# Altium footprint library memo.PcbLib: 50 footprints (part 3 of 4)
Each footprint in its own frame and in the unit in brackets; x right, y up, seen from the top. Pads: shape width x height; smd on the part's side, far side on the other; paste and mask are expansions set on the pad; w line width, h text height; cw(c..) or ccw(c..) is an arc to the next point about the centre after c.
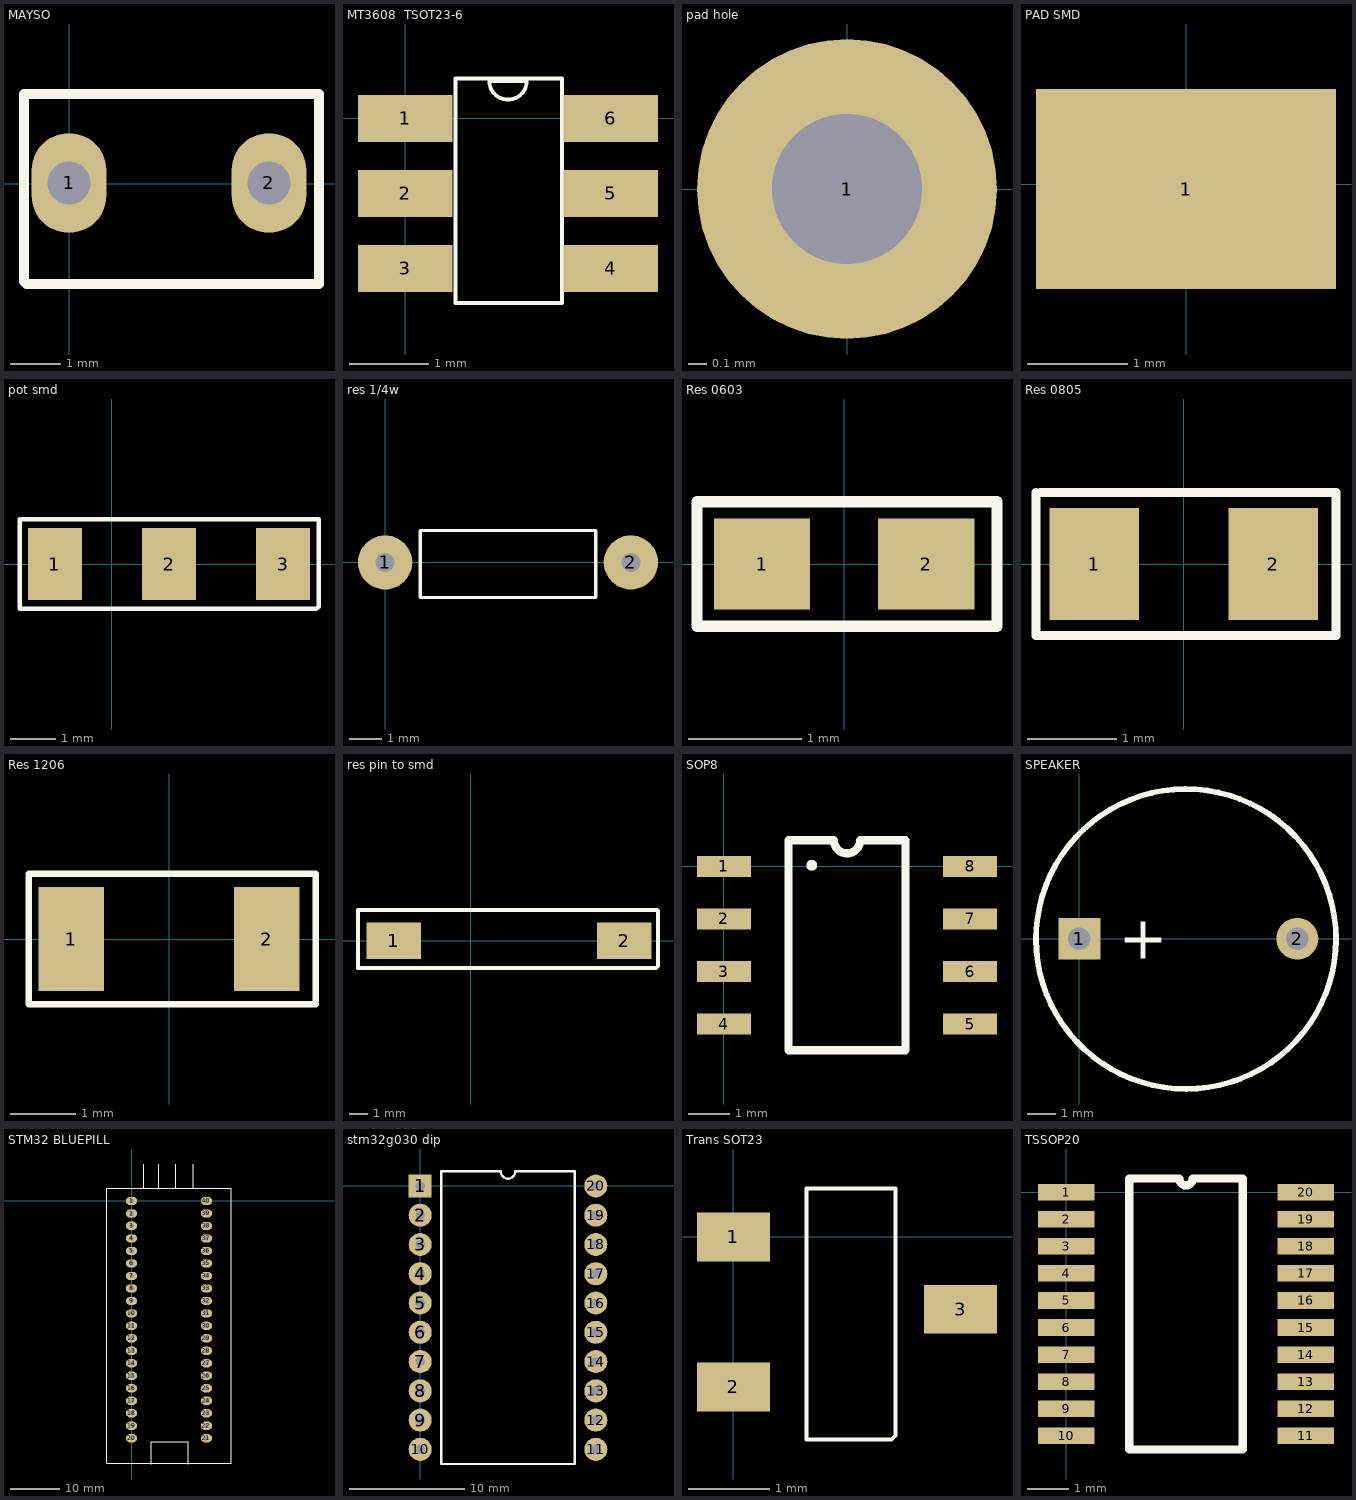
[diagram p2: the footprints below, top view; thin cyan lines are the x and y axes]

## MAYSO [mm]
pads (2):
  oval 1.5x2 hole 0.864: 1(0,0.02) 2(4,0.02)
Top Overlay:
  lines w0.2: -0.9,1.75 -0.9,-1.95 -0.85,-2 5,-2 5,1.8 -0.9,1.8

## MT3608  TSOT23-6 [mm]
pads (6):
  rect 1.2x0.6 smd: 1(0,0) 2(0,-0.95) 3(0,-1.9) 4(2.6,-1.9) 5(2.6,-0.95) 6(2.6,0)
Top Overlay:
  lines w0.05: 1.285,0.475 1.062,0.475 ccw(c1.3,0.475) 1.538,0.475 1.315,0.475
  lines w0.051: 0.635,-2.337 0.635,-2.108 0.635,0.508 1.981,0.508 1.981,-2.337 0.635,-2.337

## pad hole [mm]
pads (1):
  round 1.6 hole 0.8: 1(0,0)

## PAD SMD [mm]
pads (1):
  rect 3x2 smd: 1(0,-0.05)

## pot smd [mm]
pads (3):
  rect 1.2x1.6 smd: 1(-1.27,0) 2(1.27,0) 3(3.81,0)
Top Overlay:
  lines w0.1: -2.05,1 -2.05,-1 4.55,-1 4.6,-0.95 4.6,1 -2,1

## res 1/4w [mm]
pads (2):
  round 1.7 hole 0.6: 1(0,0) 2(7.7,0)
Top Overlay:
  lines w0.1: 1.1,-1.1 6.6,-1.1 6.6,1 1.1,1 1.1,-1.1
3D body: height 2.93, standoff -2.54, extent -1.55,-1.106 9.22,1.206

## Res 0603 [mm]
pads (2):
  rect 0.85x0.8 smd: 1(-0.725,0) 2(0.725,0)
Top Overlay:
  lines w0.1: -1.3,-0.55 1.35,-0.55 1.35,0.55 -1.3,0.55 -1.3,-0.55
3D body: height 0.45, standoff 0, extent -0.8,-0.4 0.8,0.4

## Res 0805 [mm]
pads (2):
  rect 1x1.25 smd: 1(-1,0) 2(1,0)
Top Overlay:
  lines w0.1: -1.65,0.8 -1.65,-0.8 1.7,-0.8 1.7,0.8 -1.6,0.8
3D body: height 0.5, standoff 0, extent -1,-0.65 1,0.6

## Res 1206 [mm]
pads (2):
  rect 1x1.6 smd: 1(-1.5,0) 2(1.5,0)
Top Overlay:
  lines w0.1: -2.15,0.95 -2.15,-0.9 -2.15,-1 2.25,-1 ; -2.15,1 2.25,1 2.25,-0.95
3D body: height 0.55, standoff 0, extent -1.55,-0.8 1.55,0.752

## res pin to smd [mm]
pads (2):
  rect 3x2 smd: 1(-4.25,0) 2(8.45,0)
Top Overlay:
  lines w0.2: 6.4,-1.5 10.2,-1.5 10.3,-1.4 10.3,1.65 10.25,1.7 6.4,1.7 ; 6.45,-1.5 -6.22,-1.5 -6.22,1.03 -6.22,1.7 -3.625,1.7 3.625,1.7 6.45,1.7

## SOP8 [mm]
pads (8):
  rect 1.3x0.5 smd: 1(0,0) 2(0,-1.27) 3(0,-2.54) 4(0,-3.81) 5(5.95,-3.81) 6(5.95,-2.54) 7(5.95,-1.27) 8(5.95,0)
Top Overlay:
  lines w0.2: 2.1,0 2.15,0 2.1,0.05 2.15,0.05 ; 1.56,-4.445 1.56,0.635 2.658,0.635 ccw(c2.975,0.635) 3.293,0.635 4.39,0.635 4.39,-4.445 1.56,-4.445

## SPEAKER [mm]
pads (2):
  rect 1.5x1.5 hole 0.8: 1(0,0)
  round 1.5 hole 0.8: 2(7.8,0)
Top Overlay:
  lines w0.203: 7.724,3.67 ccw(c3.816,-0.008) 7.76,3.632
  text "+" at 1.41,-0.711 h1.52
3D body: height 4.5, standoff -9.65, extent -5.777,-5.6 9.677,6.4

## STM32 BLUEPILL [mil]
pads (40):
  oval 90x65 hole 36: 1(0,0) 2(0,-101) 3(0,-199) 4(0,-300) 5(0,-400) 6(0,-500) 7(0,-600) 8(0,-700) 9(0,-800) 10(0,-900) 11(0,-1000) 12(0,-1100) 13(0,-1200) 14(0,-1300) 15(0,-1400) 16(0,-1500) 17(0,-1600) 18(0,-1700) 19(0,-1800) 20(0,-1900) 21(600,-1900) 22(600,-1800) 23(600,-1700) 24(600,-1600) 25(600,-1500) 26(600,-1400) 27(600,-1300) 28(600,-1200) 29(600,-1100) 30(600,-1000) 31(600,-900) 32(600,-800) 33(600,-700) 34(600,-600) 35(600,-500) 36(600,-400) 37(600,-300) 38(600,-200) 39(600,-100) 40(600,0)
Top Overlay:
  lines w7.87: 98.43,98.43 98.43,295.28 ; 157.48,-2106.3 157.48,-1929.13 452.76,-1929.13 452.76,-2106.3 ; 216.54,98.43 216.54,295.28 ; 354.33,98.43 354.33,295.28 ; 492.13,98.43 492.13,295.28 ; -200,-2100 800,-2100 800,100 -200,100 -200,-2100
3D body: height 384.65, standoff -334.65, extent -157.48,-2038.58 742.52,227.56

## stm32g030 dip [mm]
pads (20):
  rect 2x2 hole 0.8: 1(0,0)
  round 2 hole 0.8: 2(0,-2.54) 3(0,-5.08) 4(0,-7.62) 5(0,-10.16) 6(0,-12.7) 7(0,-15.24) 8(0,-17.78) 9(0,-20.32) 10(0,-22.86) 11(15.24,-22.86) 12(15.24,-20.32) 13(15.24,-17.78) 14(15.24,-15.24) 15(15.24,-12.7) 16(15.24,-10.16) 17(15.24,-7.62) 18(15.24,-5.08) 19(15.24,-2.54) 20(15.24,0)
Top Overlay:
  lines w0.2: 1.835,-24.13 13.405,-24.13 13.405,1.27 8.255,1.27 cw(c7.62,1.27) 6.985,1.27 1.835,1.27 1.835,-24.13

## Trans SOT23 [mm]
pads (3):
  rect 0.9x0.6 smd: 1(0,0) 2(0,-1.85) 3(2.8,-0.89)
Top Overlay:
  lines w0.051: 0.9,-2.5 0.9,0.6 2,0.6 2,-2.45 1.95,-2.5 0.9,-2.5

## TSSOP20 [mm]
pads (20):
  rect 1.35x0.4 smd: 1(0,0) 2(0,-0.65) 3(0,-1.3) 4(0,-1.95) 5(0,-2.6) 6(0,-3.25) 7(0,-3.9) 8(0,-4.55) 9(0,-5.2) 10(0,-5.85) 11(5.75,-5.85) 12(5.75,-5.2) 13(5.75,-4.55) 14(5.75,-3.9) 15(5.75,-3.25) 16(5.75,-2.6) 17(5.75,-1.95) 18(5.75,-1.3) 19(5.75,-0.65) 20(5.75,0)
Top Overlay:
  lines w0.2: 1.51,-6.175 1.51,0.325 2.713,0.325 ccw(c2.875,0.325) 3.037,0.325 4.24,0.325 4.24,-6.175 1.51,-6.175